# EAGLE library part 1X06 (library Jordi)
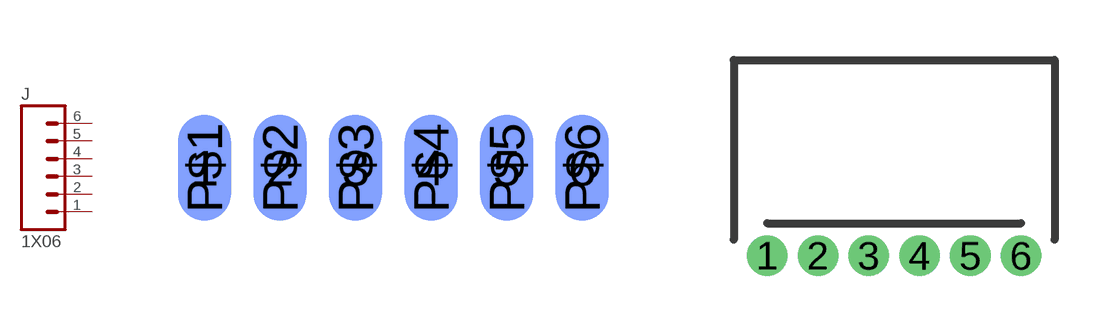
[diagram p33: symbol with the pads of CASTELLATION-06-0.1; footprints CASTELLATION-06-0.1, F-1X06-0.05-PTH-RA]

Designator prefix J

## 1X06CAS-0.1  [CASTELLATION-06-0.1]
1  1  pas
2  2  pas
3  3  pas
4  4  pas
5  5  pas
6  6  pas

## 1X06F-0.05-PTH-RA  [F-1X06-0.05-PTH-RA]
Pads as for CASTELLATION-06-0.1

## 1X06F-0.1-PTH  [F-1X06-0.1-PTH]
Pads as for CASTELLATION-06-0.1

## 1X06M-0.05-PTH  [M-1X06-0.05-PTH]
Pads as for CASTELLATION-06-0.1

## 1X06M-0.05-PTH-RA  [M-1X06-0.05-PTH-RA]
Pads as for CASTELLATION-06-0.1

## 1X06M-0.05-SMD  [M-1X06-0.05-SMD]
Pads as for CASTELLATION-06-0.1

## 1X06M-0.1-PTH  [M-1X06-0.1-PTH]
Pads as for CASTELLATION-06-0.1

## Footprint CASTELLATION-06-0.1 (pad centres in mm)
drill 1.016 pad 1.778: 1 -6.35,0; 2 -3.81,0; 3 -1.27,0; 4 1.27,0; 5 3.81,0; 6 6.35,0
smd 1.778 x 3.556 bottom: P$1 -6.35,0; P$2 -3.81,0; P$3 -1.27,0; P$4 1.27,0; P$5 3.81,0; P$6 6.35,0

## Footprint F-1X06-0.05-PTH-RA (pad centres in mm)
drill 0.508 pad 1: 1 -3.175,0; 2 -1.905,0; 3 -0.635,0; 4 0.635,0; 5 1.905,0; 6 3.175,0

## Footprint F-1X06-0.1-PTH (pad centres in mm)
drill 1.016 pad 1.88: 1 -6.35,0; 2 -3.81,0; 3 -1.27,0; 4 1.27,0; 5 3.81,0; 6 6.35,0

## Footprint M-1X06-0.05-PTH (pad centres in mm)
drill 0.508 pad 1: 1 -3.175,0; 2 -1.905,0; 3 -0.635,0; 4 0.635,0; 5 1.905,0; 6 3.175,0

## Footprint M-1X06-0.05-PTH-RA (pad centres in mm)
drill 0.508 pad 1: 1 -3.175,0; 2 -1.905,0; 3 -0.635,0; 4 0.635,0; 5 1.905,0; 6 3.175,0

## Footprint M-1X06-0.05-SMD (pad centres in mm)
smd 0.711 x 1.702: 1 -3.175,1.397; 2 -1.905,-1.397; 3 -0.635,1.397; 4 0.635,-1.397; 5 1.905,1.397; 6 3.175,-1.397

## Footprint M-1X06-0.1-PTH (pad centres in mm)
drill 1.016 pad 1.88: 1 -6.35,0; 2 -3.81,0; 3 -1.27,0; 4 1.27,0; 5 3.81,0; 6 6.35,0